# Altium footprint library PcbLib.PcbLib: 9 footprints
Each footprint in its own frame and in the unit in brackets; x right, y up, seen from the top. Pads: shape width x height; smd on the part's side, far side on the other; paste and mask are expansions set on the pad; w line width, h text height; cw(c..) or ccw(c..) is an arc to the next point about the centre after c.
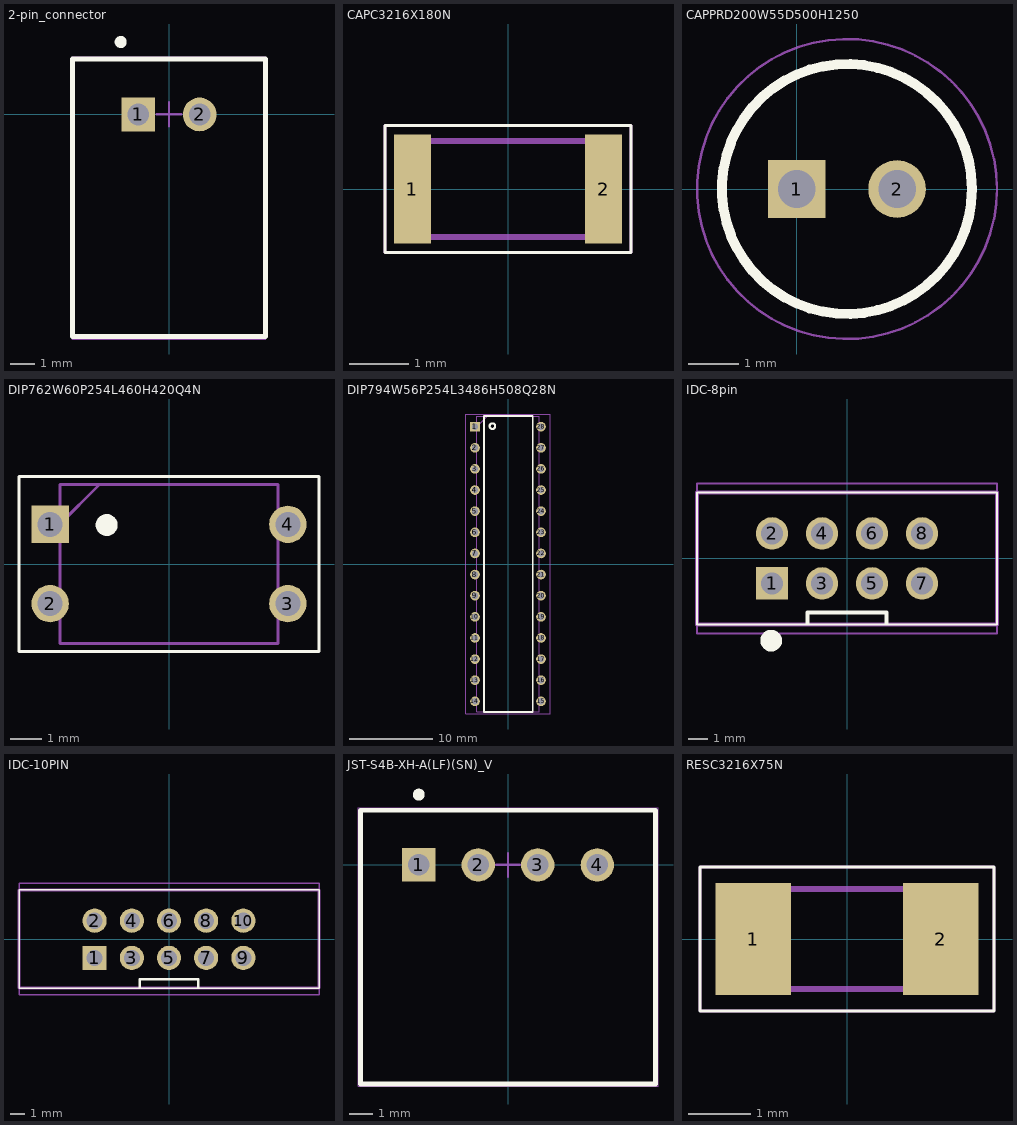
[diagram p0: the footprints below, top view; thin cyan lines are the x and y axes]

## 2-pin_connector [mm] "Шаг 2.54мм"
height 6.1
pads (2):
  rect 1.4x1.4 hole 0.9: 1(-1.27,0)
  round 1.4 hole 0.9: 2(1.27,0)
Top Overlay:
  circle w0.25: c-2,3 r0.125
  lines w0.2: -4,-9.2 4,-9.2 4,2.3 -4,2.3 -4,-9.2
Mechanical 15:
  lines w0.05: -4,-9.3 4,-9.3 4,2.4 -4,2.4 -4,-9.3
  lines w0.1: -0.5,0 0.5,0 ; 0,-0.5 0,0.5

## CAPC3216X180N [mm]
pads (2):
  rect 0.62x1.82 smd: 1(-1.6,0) 2(1.6,0)
Top Overlay:
  lines w0.05: -2.06,-1.06 -2.06,1.06 2.06,1.06 2.06,-1.06 -2.06,-1.06
Mechanical 13:
  lines w0.1: -1.6,-0.8 -1.6,0.8 1.6,0.8 1.6,-0.8 -1.6,-0.8
Mechanical 15:
  lines w0.05: -2.06,-1.06 -2.06,1.06 2.06,1.06 2.06,-1.06 -2.06,-1.06
3D body "C3216C0G1H683J160AE.stp": height 1.8, standoff 0, extent -1.6,-0.8 1.6,0.8

## CAPPRD200W55D500H1250 [mm]
pads (2):
  rect 1.15x1.15 hole 0.75: 1(0,0)
  round 1.15 hole 0.75: 2(2,0)
Top Overlay:
  circle w0.2: c1,0 r2.5
Mechanical 13:
  circle w0.1: c1,0 r2.5
Mechanical 15:
  circle w0.05: c1,0 r3
3D body "EEU-FR1V330.stp": height 12.5, standoff -10, extent -1.75,-2.75 3.75,2.75

## DIP762W60P254L460H420Q4N [mm]
pads (4):
  rect 1.2x1.2 hole 0.8: 1(-3.81,1.27)
  round 1.2 hole 0.8: 2(-3.81,-1.27) 3(3.81,-1.27) 4(3.81,1.27)
Top Overlay:
  circle w0.4: c-2,1.25 r0.15
  lines w0.1: -4.81,-2.8 -4.81,2.8 4.81,2.8 4.81,-2.8 -4.81,-2.8
Mechanical 13:
  lines w0.1: -3.5,1.28 -2.23,2.55 ; -3.5,-2.55 3.5,-2.55 3.5,2.55 -3.5,2.55 -3.5,-2.55
Mechanical 15:
  lines w0.05: -4.81,-2.8 4.81,-2.8 4.81,2.8 -4.81,2.8 -4.81,-2.8
3D body "LTV-817-B.stp": height 4.2, standoff -3.5, extent -3.96,-2.3 3.96,2.3

## DIP794W56P254L3486H508Q28N [mm]
pads (28):
  rect 1.159x1.159 hole 0.759: 1(-3.969,16.51)
  round 1.159 hole 0.759: 2(-3.969,13.97) 3(-3.969,11.43) 4(-3.969,8.89) 5(-3.969,6.35) 6(-3.969,3.81) 7(-3.969,1.27) 8(-3.969,-1.27) 9(-3.969,-3.81) 10(-3.969,-6.35) 11(-3.969,-8.89) 12(-3.969,-11.43) 13(-3.969,-13.97) 14(-3.969,-16.51) 15(3.969,-16.51) 16(3.969,-13.97) 17(3.969,-11.43) 18(3.969,-8.89) 19(3.969,-6.35) 20(3.969,-3.81) 21(3.969,-1.27) 22(3.969,1.27) 23(3.969,3.81) 24(3.969,6.35) 25(3.969,8.89) 26(3.969,11.43) 27(3.969,13.97) 28(3.969,16.51)
Top Overlay:
  lines w0.2: -2.875,-17.78 2.975,-17.78 2.975,17.78 -2.875,17.78 -2.875,-17.78
  lines w0.254: -1.54,16.59 ccw(c-1.875,16.575) -1.54,16.575
Mechanical 13:
  lines w0.1: -3.746,16.51 -2.476,17.78 ; -3.746,-17.78 -3.746,17.78 3.746,17.78 3.746,-17.78 -3.746,-17.78
Mechanical 15:
  lines w0.05: -5.084,-18.03 -5.084,18.03 5.084,18.03 5.084,-18.03 -5.084,-18.03
3D body "MCP23017-E_SP.stp": height 5.08, standoff -3.5, extent -4.109,-17.431 4.109,17.431

## IDC-8pin [mm]
pads (8):
  rect 1.65x1.65 hole 1.1: 1(-3.81,-1.27)
  round 1.65 hole 1.1: 2(-3.81,1.27) 3(-1.27,-1.27) 4(-1.27,1.27) 5(1.27,-1.27) 6(1.27,1.27) 7(3.81,-1.27) 8(3.81,1.27)
Top Overlay:
  circle w0.7: c-3.85,-4.175 r0.2
  lines w0.1: 7.595,3.35 -7.62,3.35 -7.62,-3.35 7.62,-3.35 7.62,-1.675 7.62,1.675 7.62,3.35
  lines w0.2: -2,-3.25 -2,-2.75 0,-2.75 2,-2.75 2,-3.25
Mechanical 13:
  lines w0.2: 7.595,3.35 -7.62,3.35 -7.62,-3.35 7.62,-3.35 7.62,3.35
Mechanical 15:
  lines w0.1: -7.62,-3.81 -7.62,3.81 7.62,3.81 7.62,-3.81 -7.62,-3.81

## IDC-10PIN [mm]
pads (10):
  rect 1.65x1.65 hole 1.1: 1(-5.08,-1.29)
  round 1.65 hole 1.1: 2(-5.08,1.25) 3(-2.54,-1.29) 4(-2.54,1.25) 5(0,-1.29) 6(0,1.25) 7(2.54,-1.29) 8(2.54,1.25) 9(5.08,-1.29) 10(5.08,1.25)
Top Overlay:
  lines w0.1: -10.25,-3.35 -10.25,3.35 10.25,3.35 10.25,-3.35 -10.25,-3.35
  lines w0.2: -2,-3.25 -2,-2.75 0,-2.75 2,-2.75 2,-3.25
Mechanical 13:
  lines w0.2: -10.25,-3.35 -10.25,3.35 10.25,3.35 10.25,-3.35 -10.25,-3.35
Mechanical 15:
  lines w0.1: -10.25,-3.81 -10.25,3.81 10.25,3.81 10.25,-3.81 -10.25,-3.81

## JST-S4B-XH-A(LF)(SN)_V [mm] "Header, 4-Leads, Body 12.4x11.5mm, Pitch 2.5mm"
height 6.1
pads (4):
  rect 1.4x1.4 hole 0.9: 1(-3.75,0)
  round 1.4 hole 0.9: 2(-1.25,0) 3(1.25,0) 4(3.75,0)
Top Overlay:
  circle w0.25: c-3.75,2.95 r0.125
  lines w0.2: -6.197,2.3 -6.2,2.3 ; -6.2,2.3 6.2,2.3 6.2,-9.2 -6.2,-9.2 -6.2,2.3
Mechanical 13:
  lines w0.1: -6.2,-9.2 -6.2,2.3 6.2,2.3 6.2,-9.2 -6.2,-9.2
Mechanical 15:
  lines w0.05: -6.3,-9.3 -6.3,2.4 6.3,2.4 6.3,-9.3 -6.3,-9.3
  lines w0.1: -0.5,0 0.5,0 ; 0,-0.5 0,0.5
3D body "S4B-XH-A.STEP": height 6.15, standoff -3.4, extent -6.2,-9.2 6.2,2.3

## RESC3216X75N [mm]
pads (2):
  rect 1.2x1.8 smd: 1(-1.5,0) 2(1.5,0)
Top Overlay:
  lines w0.05: -2.35,-1.15 -2.35,1.15 2.35,1.15 2.35,-1.15 -2.35,-1.15
Mechanical 13:
  lines w0.1: -1.6,-0.8 -1.6,0.8 1.6,0.8 1.6,-0.8 -1.6,-0.8
Mechanical 15:
  lines w0.05: -2.35,-1.15 -2.35,1.15 2.35,1.15 2.35,-1.15 -2.35,-1.15
3D body "CR1206-FW-1504ELF.stp": height 0.75, standoff 0, extent -1.6,-0.8 1.6,0.8